# EAGLE library part MAX17059 (library Railstars)
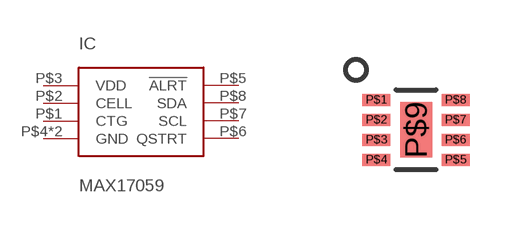
[diagram p12: symbol with the pads of TDFN-8; footprint TDFN-8]

Designator prefix IC

## MAX17059G  [TDFN-8]
P$1  CTG
P$2  CELL
P$3  VDD
P$4  GND
P$5  !ALRT
P$6  QSTRT
P$7  SCL
P$8  SDA
P$9  GND

## Footprint TDFN-8 (pad centres in mm)
smd 0.7 x 0.3: P$1 -0.99,0.75; P$2 -0.99,0.25; P$3 -0.99,-0.25; P$4 -0.99,-0.75; P$5 0.99,-0.75; P$6 0.99,-0.25; P$7 0.99,0.25; P$8 0.99,0.75
smd 0.8 x 1.38: P$9 0,0